# EAGLE library part DPDT (library FansElectronics-Switch)
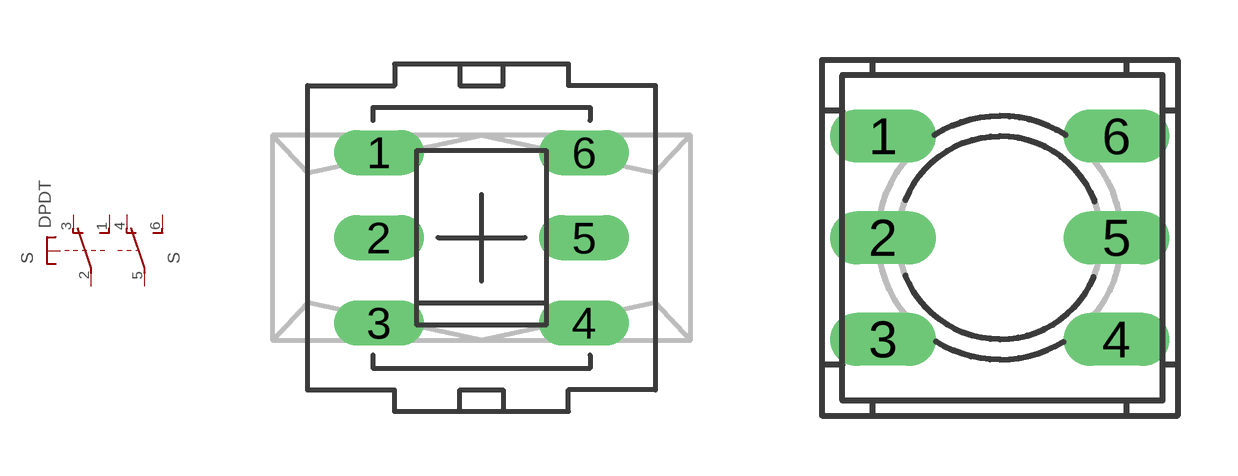
[diagram p0: symbol with the pads of DPDT-1; footprints DPDT-1, DPDT-2]

Designator prefix S; gates G$1=SPDT G$2=U-2

## DPDT-1  [DPDT-1]
1  G$1:S  pas
2  G$1:P  pas
3  G$1:O  pas
4  G$2:O  pas
5  G$2:P  pas
6  G$2:S  pas

## DPDT-2  [DPDT-2]
Pads as for DPDT-1

## Footprint DPDT-1 (pad centres in mm)
drill 0.813 long: 1 -2.997,2.489; 2 -2.997,0; 3 -2.997,-2.489; 4 2.997,-2.489; 5 2.997,0; 6 2.997,2.489

## Footprint DPDT-2 (pad centres in mm)
drill 0.813 long: 1 -2.921,2.54; 2 -2.921,0; 3 -2.921,-2.54; 4 2.921,-2.54; 5 2.921,0; 6 2.921,2.54